# Altium footprint library 009-Cystal.PcbLib: 2 footprints
Each footprint in its own frame and in the unit in brackets; x right, y up, seen from the top. Pads: shape width x height; smd on the part's side, far side on the other; paste and mask are expansions set on the pad; w line width, h text height; cw(c..) or ccw(c..) is an arc to the next point about the centre after c.
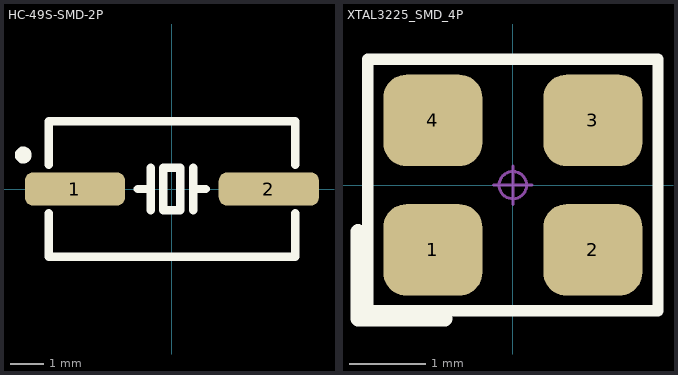
[diagram p0: the footprints below, top view; thin cyan lines are the x and y axes]

## HC-49S-SMD-2P [mm] "HC-49S-SMD-2P/L=7.8mm/W=3.0mm/L=2.3mm"
height 2.3
pads (2):
  rrect50% 3x1 smd: 1(-2.9,0) 2(2.9,0)
Top Overlay:
  circle w0.254: c-4.445,1.016 r0.127
  lines w0.254: -3.683,-0.731 -3.683,-2.032 3.683,-2.032 3.683,-0.731 ; -3.683,0.731 -3.683,2.032 3.683,2.032 3.683,0.731 ; -1.016,0 -0.635,0 ; -0.635,-0.635 -0.635,0 ; -0.635,0.635 -0.635,0 ; 0.635,-0.635 0.635,0 ; 0.635,0.635 0.635,0 ; 1.016,0 0.635,0 ; -0.254,-0.635 -0.254,0.635 0.254,0.635 0.254,-0.635 -0.254,-0.635
3D body "HC-49S-SMD-2P.step": height 2.04, standoff 0.03, extent -3.8,-2 3.8,2

## XTAL3225_SMD_4P [mm] "XTAL3225_SMD_4P/L=3.2mm/W=2.5mm/H=0.7mm"
height 0.7
pads (4):
  rrect50% 1.3x1.2 smd: 1(-1.05,-0.85) 2(1.05,-0.85) 3(1.05,0.85) 4(-1.05,0.85)
Top Overlay:
  lines w0.15: -1.905,-1.651 1.905,-1.651 1.905,1.651 -1.905,1.651 -1.905,-1.651
  lines w0.2: -2.032,-1.753 -0.889,-1.753 ; -2.032,-1.727 -2.032,-0.61
Mechanical 15:
  circle w0.04: c0,0 r0.18
  lines w0.04: -0.254,0 0.254,0 ; 0,-0.254 0,0.254
3D body "XTAL3225_SMD_4P.step": height 0.81, standoff 0, extent -1.6,-1.25 1.6,1.25